# EAGLE library part ATTINY2313 (library atmex)
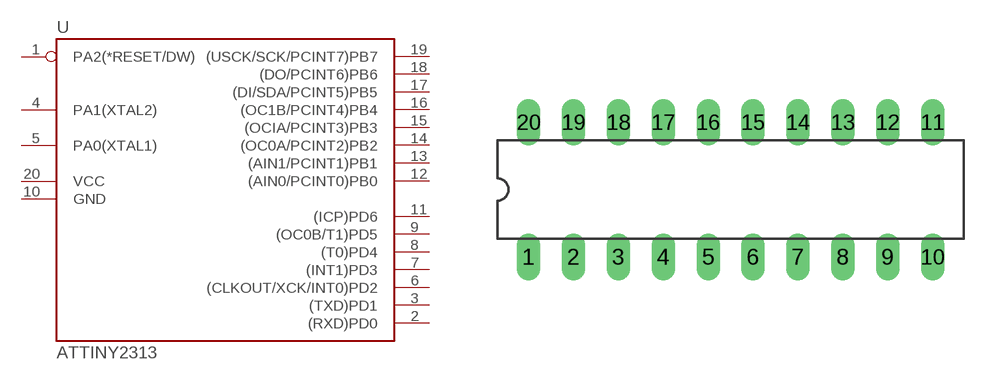
[diagram p0: symbol with the pads of DIL20; footprint DIL20]

Designator prefix -

## ATTINY2313  [DIL20]
1  PA2(*RESET/DW)
2  (RXD)PD0
3  (TXD)PD1
4  PA1(XTAL2)
5  PA0(XTAL1)
6  (CLKOUT/XCK/INT0)PD2
7  (INT1)PD3
8  (T0)PD4
9  (OC0B/T1)PD5
10  GND  pwr
11  (ICP)PD6
12  (AIN0/PCINT0)PB0
13  (AIN1/PCINT1)PB1
14  (OC0A/PCINT2)PB2
15  (OCIA/PCINT3)PB3
16  (OC1B/PCINT4)PB4
17  (DI/SDA/PCINT5)PB5
18  (DO/PCINT6)PB6
19  (USCK/SCK/PCINT7)PB7
20  VCC  pwr

## Footprint DIL20 (pad centres in mm)
Dual In Line
drill 0.813 long: 1 -11.43,-3.81; 2 -8.89,-3.81; 3 -6.35,-3.81; 4 -3.81,-3.81; 5 -1.27,-3.81; 6 1.27,-3.81; 7 3.81,-3.81; 8 6.35,-3.81; 9 8.89,-3.81; 10 11.43,-3.81; 11 11.43,3.81; 12 8.89,3.81; 13 6.35,3.81; 14 3.81,3.81; 15 1.27,3.81; 16 -1.27,3.81; 17 -3.81,3.81; 18 -6.35,3.81; 19 -8.89,3.81; 20 -11.43,3.81